# Altium integrated library Vishay Roederstein Electrolytic Snap-In Pins Capacitor.IntLib: 936 symbols (part 6 of 16)
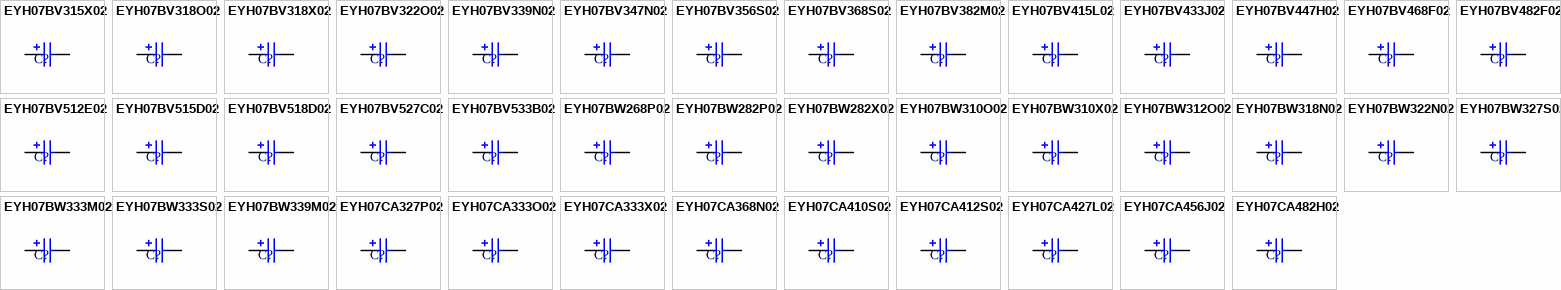
[diagram p28: symbols EYH07BV315X02 to EYH07CA482H02]

## EYH07BW282P02
designator C?
Aluminum Electrolytic Capacitor, Power Capacitor Style EYH, Snap-in 6mm Solder Pins: 82uF, 450V; PCB_Layout: Complies with Manufacturer's Recommendation.; DrillSize: Nominal, Complies with Manufacturer's Recommendation.; Published: 19-Mar-2004; DatasheetDocument: 14-Feb-2002; PackageReference: CAPPRS10-30X20; Publisher: Altium Limited; ComponentLink1Description: Manufacturer Link; ComponentLink1URL: http://www.vishay.com/; ComponentLink2Description: Datasheet; ComponentLink2URL: http://www.vishay.com/docs/25139/eyh.pdf; Value: 82uF
footprint CAPPRS10-30X20 (Capacitor, Electrolytic, Radial, Snap-In Pins; Body 30 x 20 mm (Dia.xH typ); Pin Spacing 10 mm (typ))
simulation model CAP (Capacitor)
signal-integrity model EYH07BW282P02
pins: 1, 2
1 alternate drawing of the same symbol

## EYH07BW282X02
designator C?
Aluminum Electrolytic Capacitor, Power Capacitor Style EYH, Snap-in 6mm Solder Pins: 82uF, 400V; PCB_Layout: Complies with Manufacturer's Recommendation.; DrillSize: Nominal, Complies with Manufacturer's Recommendation.; Published: 19-Mar-2004; DatasheetDocument: 14-Feb-2002; PackageReference: CAPPRS10-30X20; Publisher: Altium Limited; ComponentLink1Description: Manufacturer Link; ComponentLink1URL: http://www.vishay.com/; ComponentLink2Description: Datasheet; ComponentLink2URL: http://www.vishay.com/docs/25139/eyh.pdf; Value: 82uF
footprint CAPPRS10-30X20 (Capacitor, Electrolytic, Radial, Snap-In Pins; Body 30 x 20 mm (Dia.xH typ); Pin Spacing 10 mm (typ))
simulation model CAP (Capacitor)
signal-integrity model EYH07BW282X02
pins: 1, 2
1 alternate drawing of the same symbol

## EYH07BW310O02
designator C?
Aluminum Electrolytic Capacitor, Power Capacitor Style EYH, Snap-in 6mm Solder Pins: 100uF, 350V; PCB_Layout: Complies with Manufacturer's Recommendation.; DrillSize: Nominal, Complies with Manufacturer's Recommendation.; Published: 19-Mar-2004; DatasheetDocument: 14-Feb-2002; PackageReference: CAPPRS10-30X20; Publisher: Altium Limited; ComponentLink1Description: Manufacturer Link; ComponentLink1URL: http://www.vishay.com/; ComponentLink2Description: Datasheet; ComponentLink2URL: http://www.vishay.com/docs/25139/eyh.pdf; Value: 100uF
footprint CAPPRS10-30X20 (Capacitor, Electrolytic, Radial, Snap-In Pins; Body 30 x 20 mm (Dia.xH typ); Pin Spacing 10 mm (typ))
simulation model CAP (Capacitor)
signal-integrity model EYH07BW310O02
pins: 1, 2
1 alternate drawing of the same symbol

## EYH07BW310X02
designator C?
Aluminum Electrolytic Capacitor, Power Capacitor Style EYH, Snap-in 6mm Solder Pins: 100uF, 400V; PCB_Layout: Complies with Manufacturer's Recommendation.; DrillSize: Nominal, Complies with Manufacturer's Recommendation.; Published: 19-Mar-2004; DatasheetDocument: 14-Feb-2002; PackageReference: CAPPRS10-30X20; Publisher: Altium Limited; ComponentLink1Description: Manufacturer Link; ComponentLink1URL: http://www.vishay.com/; ComponentLink2Description: Datasheet; ComponentLink2URL: http://www.vishay.com/docs/25139/eyh.pdf; Value: 100uF
footprint CAPPRS10-30X20 (Capacitor, Electrolytic, Radial, Snap-In Pins; Body 30 x 20 mm (Dia.xH typ); Pin Spacing 10 mm (typ))
simulation model CAP (Capacitor)
signal-integrity model EYH07BW310X02
pins: 1, 2
1 alternate drawing of the same symbol

## EYH07BW312O02
designator C?
Aluminum Electrolytic Capacitor, Power Capacitor Style EYH, Snap-in 6mm Solder Pins: 120uF, 350V; PCB_Layout: Complies with Manufacturer's Recommendation.; DrillSize: Nominal, Complies with Manufacturer's Recommendation.; Published: 19-Mar-2004; DatasheetDocument: 14-Feb-2002; PackageReference: CAPPRS10-30X20; Publisher: Altium Limited; ComponentLink1Description: Manufacturer Link; ComponentLink1URL: http://www.vishay.com/; ComponentLink2Description: Datasheet; ComponentLink2URL: http://www.vishay.com/docs/25139/eyh.pdf; Value: 120uF
footprint CAPPRS10-30X20 (Capacitor, Electrolytic, Radial, Snap-In Pins; Body 30 x 20 mm (Dia.xH typ); Pin Spacing 10 mm (typ))
simulation model CAP (Capacitor)
signal-integrity model EYH07BW312O02
pins: 1, 2
1 alternate drawing of the same symbol

## EYH07BW318N02
designator C?
Aluminum Electrolytic Capacitor, Power Capacitor Style EYH, Snap-in 6mm Solder Pins: 180uF, 250V; PCB_Layout: Complies with Manufacturer's Recommendation.; DrillSize: Nominal, Complies with Manufacturer's Recommendation.; Published: 19-Mar-2004; DatasheetDocument: 14-Feb-2002; PackageReference: CAPPRS10-30X20; Publisher: Altium Limited; ComponentLink1Description: Manufacturer Link; ComponentLink1URL: http://www.vishay.com/; ComponentLink2Description: Datasheet; ComponentLink2URL: http://www.vishay.com/docs/25139/eyh.pdf; Value: 180uF
footprint CAPPRS10-30X20 (Capacitor, Electrolytic, Radial, Snap-In Pins; Body 30 x 20 mm (Dia.xH typ); Pin Spacing 10 mm (typ))
simulation model CAP (Capacitor)
signal-integrity model EYH07BW318N02
pins: 1, 2
1 alternate drawing of the same symbol

## EYH07BW322N02
designator C?
Aluminum Electrolytic Capacitor, Power Capacitor Style EYH, Snap-in 6mm Solder Pins: 220uF, 250V; PCB_Layout: Complies with Manufacturer's Recommendation.; DrillSize: Nominal, Complies with Manufacturer's Recommendation.; Published: 19-Mar-2004; DatasheetDocument: 14-Feb-2002; PackageReference: CAPPRS10-30X20; Publisher: Altium Limited; ComponentLink1Description: Manufacturer Link; ComponentLink1URL: http://www.vishay.com/; ComponentLink2Description: Datasheet; ComponentLink2URL: http://www.vishay.com/docs/25139/eyh.pdf; Value: 220uF
footprint CAPPRS10-30X20 (Capacitor, Electrolytic, Radial, Snap-In Pins; Body 30 x 20 mm (Dia.xH typ); Pin Spacing 10 mm (typ))
simulation model CAP (Capacitor)
signal-integrity model EYH07BW322N02
pins: 1, 2
1 alternate drawing of the same symbol

## EYH07BW327S02
designator C?
Aluminum Electrolytic Capacitor, Power Capacitor Style EYH, Snap-in 6mm Solder Pins: 270uF, 200V; PCB_Layout: Complies with Manufacturer's Recommendation.; DrillSize: Nominal, Complies with Manufacturer's Recommendation.; Published: 19-Mar-2004; DatasheetDocument: 14-Feb-2002; PackageReference: CAPPRS10-30X20; Publisher: Altium Limited; ComponentLink1Description: Manufacturer Link; ComponentLink1URL: http://www.vishay.com/; ComponentLink2Description: Datasheet; ComponentLink2URL: http://www.vishay.com/docs/25139/eyh.pdf; Value: 270uF
footprint CAPPRS10-30X20 (Capacitor, Electrolytic, Radial, Snap-In Pins; Body 30 x 20 mm (Dia.xH typ); Pin Spacing 10 mm (typ))
simulation model CAP (Capacitor)
signal-integrity model EYH07BW327S02
pins: 1, 2
1 alternate drawing of the same symbol

## EYH07BW333M02
designator C?
Aluminum Electrolytic Capacitor, Power Capacitor Style EYH, Snap-in 6mm Solder Pins: 330uF, 160V; PCB_Layout: Complies with Manufacturer's Recommendation.; DrillSize: Nominal, Complies with Manufacturer's Recommendation.; Published: 19-Mar-2004; DatasheetDocument: 14-Feb-2002; PackageReference: CAPPRS10-30X20; Publisher: Altium Limited; ComponentLink1Description: Manufacturer Link; ComponentLink1URL: http://www.vishay.com/; ComponentLink2Description: Datasheet; ComponentLink2URL: http://www.vishay.com/docs/25139/eyh.pdf; Value: 330uF
footprint CAPPRS10-30X20 (Capacitor, Electrolytic, Radial, Snap-In Pins; Body 30 x 20 mm (Dia.xH typ); Pin Spacing 10 mm (typ))
simulation model CAP (Capacitor)
signal-integrity model EYH07BW333M02
pins: 1, 2
1 alternate drawing of the same symbol

## EYH07BW333S02
designator C?
Aluminum Electrolytic Capacitor, Power Capacitor Style EYH, Snap-in 6mm Solder Pins: 330uF, 200V; PCB_Layout: Complies with Manufacturer's Recommendation.; DrillSize: Nominal, Complies with Manufacturer's Recommendation.; Published: 19-Mar-2004; DatasheetDocument: 14-Feb-2002; PackageReference: CAPPRS10-30X20; Publisher: Altium Limited; ComponentLink1Description: Manufacturer Link; ComponentLink1URL: http://www.vishay.com/; ComponentLink2Description: Datasheet; ComponentLink2URL: http://www.vishay.com/docs/25139/eyh.pdf; Value: 330uF
footprint CAPPRS10-30X20 (Capacitor, Electrolytic, Radial, Snap-In Pins; Body 30 x 20 mm (Dia.xH typ); Pin Spacing 10 mm (typ))
simulation model CAP (Capacitor)
signal-integrity model EYH07BW333S02
pins: 1, 2
1 alternate drawing of the same symbol

## EYH07BW339M02
designator C?
Aluminum Electrolytic Capacitor, Power Capacitor Style EYH, Snap-in 6mm Solder Pins: 390uF, 160V; PCB_Layout: Complies with Manufacturer's Recommendation.; DrillSize: Nominal, Complies with Manufacturer's Recommendation.; Published: 19-Mar-2004; DatasheetDocument: 14-Feb-2002; PackageReference: CAPPRS10-30X20; Publisher: Altium Limited; ComponentLink1Description: Manufacturer Link; ComponentLink1URL: http://www.vishay.com/; ComponentLink2Description: Datasheet; ComponentLink2URL: http://www.vishay.com/docs/25139/eyh.pdf; Value: 390uF
footprint CAPPRS10-30X20 (Capacitor, Electrolytic, Radial, Snap-In Pins; Body 30 x 20 mm (Dia.xH typ); Pin Spacing 10 mm (typ))
simulation model CAP (Capacitor)
signal-integrity model EYH07BW339M02
pins: 1, 2
1 alternate drawing of the same symbol

## EYH07CA327P02
designator C?
Aluminum Electrolytic Capacitor, Power Capacitor Style EYH, Snap-in 6mm Solder Pins: 270uF, 450V; PCB_Layout: Complies with Manufacturer's Recommendation.; DrillSize: Nominal, Complies with Manufacturer's Recommendation.; Published: 19-Mar-2004; DatasheetDocument: 14-Feb-2002; PackageReference: CAPPRS10-35X35; Publisher: Altium Limited; ComponentLink1Description: Manufacturer Link; ComponentLink1URL: http://www.vishay.com/; ComponentLink2Description: Datasheet; ComponentLink2URL: http://www.vishay.com/docs/25139/eyh.pdf; Value: 270uF
footprint CAPPRS10-35X35 (Capacitor, Electrolytic, Radial, Snap-In Pins; Body 35 x 35 mm (Dia.xH typ); Pin Spacing 10 mm (typ))
simulation model CAP (Capacitor)
signal-integrity model EYH07CA327P02
pins: 1, 2
1 alternate drawing of the same symbol

## EYH07CA333O02
designator C?
Aluminum Electrolytic Capacitor, Power Capacitor Style EYH, Snap-in 6mm Solder Pins: 330uF, 350V; PCB_Layout: Complies with Manufacturer's Recommendation.; DrillSize: Nominal, Complies with Manufacturer's Recommendation.; Published: 19-Mar-2004; DatasheetDocument: 14-Feb-2002; PackageReference: CAPPRS10-35X35; Publisher: Altium Limited; ComponentLink1Description: Manufacturer Link; ComponentLink1URL: http://www.vishay.com/; ComponentLink2Description: Datasheet; ComponentLink2URL: http://www.vishay.com/docs/25139/eyh.pdf; Value: 330uF
footprint CAPPRS10-35X35 (Capacitor, Electrolytic, Radial, Snap-In Pins; Body 35 x 35 mm (Dia.xH typ); Pin Spacing 10 mm (typ))
simulation model CAP (Capacitor)
signal-integrity model EYH07CA333O02
pins: 1, 2
1 alternate drawing of the same symbol

## EYH07CA333X02
designator C?
Aluminum Electrolytic Capacitor, Power Capacitor Style EYH, Snap-in 6mm Solder Pins: 330uF, 400V; PCB_Layout: Complies with Manufacturer's Recommendation.; DrillSize: Nominal, Complies with Manufacturer's Recommendation.; Published: 19-Mar-2004; DatasheetDocument: 14-Feb-2002; PackageReference: CAPPRS10-35X35; Publisher: Altium Limited; ComponentLink1Description: Manufacturer Link; ComponentLink1URL: http://www.vishay.com/; ComponentLink2Description: Datasheet; ComponentLink2URL: http://www.vishay.com/docs/25139/eyh.pdf; Value: 330uF
footprint CAPPRS10-35X35 (Capacitor, Electrolytic, Radial, Snap-In Pins; Body 35 x 35 mm (Dia.xH typ); Pin Spacing 10 mm (typ))
simulation model CAP (Capacitor)
signal-integrity model EYH07CA333X02
pins: 1, 2
1 alternate drawing of the same symbol

## EYH07CA368N02
designator C?
Aluminum Electrolytic Capacitor, Power Capacitor Style EYH, Snap-in 6mm Solder Pins: 680uF, 250V; PCB_Layout: Complies with Manufacturer's Recommendation.; DrillSize: Nominal, Complies with Manufacturer's Recommendation.; Published: 19-Mar-2004; DatasheetDocument: 14-Feb-2002; PackageReference: CAPPRS10-35X35; Publisher: Altium Limited; ComponentLink1Description: Manufacturer Link; ComponentLink1URL: http://www.vishay.com/; ComponentLink2Description: Datasheet; ComponentLink2URL: http://www.vishay.com/docs/25139/eyh.pdf; Value: 680uF
footprint CAPPRS10-35X35 (Capacitor, Electrolytic, Radial, Snap-In Pins; Body 35 x 35 mm (Dia.xH typ); Pin Spacing 10 mm (typ))
simulation model CAP (Capacitor)
signal-integrity model EYH07CA368N02
pins: 1, 2
1 alternate drawing of the same symbol

## EYH07CA410S02
designator C?
Aluminum Electrolytic Capacitor, Power Capacitor Style EYH, Snap-in 6mm Solder Pins: 1000uF, 200V; PCB_Layout: Complies with Manufacturer's Recommendation.; DrillSize: Nominal, Complies with Manufacturer's Recommendation.; Published: 19-Mar-2004; DatasheetDocument: 14-Feb-2002; PackageReference: CAPPRS10-35X35; Publisher: Altium Limited; ComponentLink1Description: Manufacturer Link; ComponentLink1URL: http://www.vishay.com/; ComponentLink2Description: Datasheet; ComponentLink2URL: http://www.vishay.com/docs/25139/eyh.pdf; Value: 1000uF
footprint CAPPRS10-35X35 (Capacitor, Electrolytic, Radial, Snap-In Pins; Body 35 x 35 mm (Dia.xH typ); Pin Spacing 10 mm (typ))
simulation model CAP (Capacitor)
signal-integrity model EYH07CA410S02
pins: 1, 2
1 alternate drawing of the same symbol

## EYH07CA412S02
designator C?
Aluminum Electrolytic Capacitor, Power Capacitor Style EYH, Snap-in 6mm Solder Pins: 1200uF, 200V; PCB_Layout: Complies with Manufacturer's Recommendation.; DrillSize: Nominal, Complies with Manufacturer's Recommendation.; Published: 19-Mar-2004; DatasheetDocument: 14-Feb-2002; PackageReference: CAPPRS10-35X35; Publisher: Altium Limited; ComponentLink1Description: Manufacturer Link; ComponentLink1URL: http://www.vishay.com/; ComponentLink2Description: Datasheet; ComponentLink2URL: http://www.vishay.com/docs/25139/eyh.pdf; Value: 1200uF
footprint CAPPRS10-35X35 (Capacitor, Electrolytic, Radial, Snap-In Pins; Body 35 x 35 mm (Dia.xH typ); Pin Spacing 10 mm (typ))
simulation model CAP (Capacitor)
signal-integrity model EYH07CA412S02
pins: 1, 2
1 alternate drawing of the same symbol

## EYH07CA427L02
designator C?
Aluminum Electrolytic Capacitor, Power Capacitor Style EYH, Snap-in 6mm Solder Pins: 2700uF, 100V; PCB_Layout: Complies with Manufacturer's Recommendation.; DrillSize: Nominal, Complies with Manufacturer's Recommendation.; Published: 19-Mar-2004; DatasheetDocument: 14-Feb-2002; PackageReference: CAPPRS10-35X35; Publisher: Altium Limited; ComponentLink1Description: Manufacturer Link; ComponentLink1URL: http://www.vishay.com/; ComponentLink2Description: Datasheet; ComponentLink2URL: http://www.vishay.com/docs/25139/eyh.pdf; Value: 2700uF
footprint CAPPRS10-35X35 (Capacitor, Electrolytic, Radial, Snap-In Pins; Body 35 x 35 mm (Dia.xH typ); Pin Spacing 10 mm (typ))
simulation model CAP (Capacitor)
signal-integrity model EYH07CA427L02
pins: 1, 2
1 alternate drawing of the same symbol

## EYH07CA456J02
designator C?
Aluminum Electrolytic Capacitor, Power Capacitor Style EYH, Snap-in 6mm Solder Pins: 5600uF, 63V; PCB_Layout: Complies with Manufacturer's Recommendation.; DrillSize: Nominal, Complies with Manufacturer's Recommendation.; Published: 19-Mar-2004; DatasheetDocument: 14-Feb-2002; PackageReference: CAPPRS10-35X35; Publisher: Altium Limited; ComponentLink1Description: Manufacturer Link; ComponentLink1URL: http://www.vishay.com/; ComponentLink2Description: Datasheet; ComponentLink2URL: http://www.vishay.com/docs/25139/eyh.pdf; Value: 5600uF
footprint CAPPRS10-35X35 (Capacitor, Electrolytic, Radial, Snap-In Pins; Body 35 x 35 mm (Dia.xH typ); Pin Spacing 10 mm (typ))
simulation model CAP (Capacitor)
signal-integrity model EYH07CA456J02
pins: 1, 2
1 alternate drawing of the same symbol

## EYH07CA482H02
designator C?
Aluminum Electrolytic Capacitor, Power Capacitor Style EYH, Snap-in 6mm Solder Pins: 8200uF, 50V; PCB_Layout: Complies with Manufacturer's Recommendation.; DrillSize: Nominal, Complies with Manufacturer's Recommendation.; Published: 19-Mar-2004; DatasheetDocument: 14-Feb-2002; PackageReference: CAPPRS10-35X35; Publisher: Altium Limited; ComponentLink1Description: Manufacturer Link; ComponentLink1URL: http://www.vishay.com/; ComponentLink2Description: Datasheet; ComponentLink2URL: http://www.vishay.com/docs/25139/eyh.pdf; Value: 8200uF
footprint CAPPRS10-35X35 (Capacitor, Electrolytic, Radial, Snap-In Pins; Body 35 x 35 mm (Dia.xH typ); Pin Spacing 10 mm (typ))
simulation model CAP (Capacitor)
signal-integrity model EYH07CA482H02
pins: 1, 2
1 alternate drawing of the same symbol

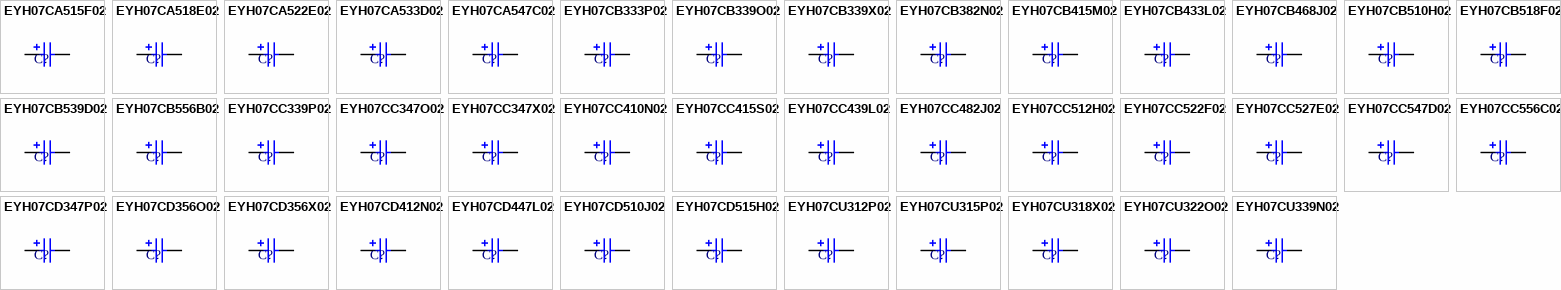
[diagram p8: symbols EYH07CA515F02 to EYH07CU339N02]

## EYH07CA515F02
designator C?
Aluminum Electrolytic Capacitor, Power Capacitor Style EYH, Snap-in 6mm Solder Pins: 15000uF, 35V; PCB_Layout: Complies with Manufacturer's Recommendation.; DrillSize: Nominal, Complies with Manufacturer's Recommendation.; Published: 19-Mar-2004; DatasheetDocument: 14-Feb-2002; PackageReference: CAPPRS10-35X35; Publisher: Altium Limited; ComponentLink1Description: Manufacturer Link; ComponentLink1URL: http://www.vishay.com/; ComponentLink2Description: Datasheet; ComponentLink2URL: http://www.vishay.com/docs/25139/eyh.pdf; Value: 15000uF
footprint CAPPRS10-35X35 (Capacitor, Electrolytic, Radial, Snap-In Pins; Body 35 x 35 mm (Dia.xH typ); Pin Spacing 10 mm (typ))
simulation model CAP (Capacitor)
signal-integrity model EYH07CA515F02
pins: 1, 2
1 alternate drawing of the same symbol

## EYH07CA518E02
designator C?
Aluminum Electrolytic Capacitor, Power Capacitor Style EYH, Snap-in 6mm Solder Pins: 18000uF, 25V; PCB_Layout: Complies with Manufacturer's Recommendation.; DrillSize: Nominal, Complies with Manufacturer's Recommendation.; Published: 19-Mar-2004; DatasheetDocument: 14-Feb-2002; PackageReference: CAPPRS10-35X35; Publisher: Altium Limited; ComponentLink1Description: Manufacturer Link; ComponentLink1URL: http://www.vishay.com/; ComponentLink2Description: Datasheet; ComponentLink2URL: http://www.vishay.com/docs/25139/eyh.pdf; Value: 18000uF
footprint CAPPRS10-35X35 (Capacitor, Electrolytic, Radial, Snap-In Pins; Body 35 x 35 mm (Dia.xH typ); Pin Spacing 10 mm (typ))
simulation model CAP (Capacitor)
signal-integrity model EYH07CA518E02
pins: 1, 2
1 alternate drawing of the same symbol

## EYH07CA522E02
designator C?
Aluminum Electrolytic Capacitor, Power Capacitor Style EYH, Snap-in 6mm Solder Pins: 22000uF, 25V; PCB_Layout: Complies with Manufacturer's Recommendation.; DrillSize: Nominal, Complies with Manufacturer's Recommendation.; Published: 19-Mar-2004; DatasheetDocument: 14-Feb-2002; PackageReference: CAPPRS10-35X35; Publisher: Altium Limited; ComponentLink1Description: Manufacturer Link; ComponentLink1URL: http://www.vishay.com/; ComponentLink2Description: Datasheet; ComponentLink2URL: http://www.vishay.com/docs/25139/eyh.pdf; Value: 22000uF
footprint CAPPRS10-35X35 (Capacitor, Electrolytic, Radial, Snap-In Pins; Body 35 x 35 mm (Dia.xH typ); Pin Spacing 10 mm (typ))
simulation model CAP (Capacitor)
signal-integrity model EYH07CA522E02
pins: 1, 2
1 alternate drawing of the same symbol

## EYH07CA533D02
designator C?
Aluminum Electrolytic Capacitor, Power Capacitor Style EYH, Snap-in 6mm Solder Pins: 33000uF, 16V; PCB_Layout: Complies with Manufacturer's Recommendation.; DrillSize: Nominal, Complies with Manufacturer's Recommendation.; Published: 19-Mar-2004; DatasheetDocument: 14-Feb-2002; PackageReference: CAPPRS10-35X35; Publisher: Altium Limited; ComponentLink1Description: Manufacturer Link; ComponentLink1URL: http://www.vishay.com/; ComponentLink2Description: Datasheet; ComponentLink2URL: http://www.vishay.com/docs/25139/eyh.pdf; Value: 33000uF
footprint CAPPRS10-35X35 (Capacitor, Electrolytic, Radial, Snap-In Pins; Body 35 x 35 mm (Dia.xH typ); Pin Spacing 10 mm (typ))
simulation model CAP (Capacitor)
signal-integrity model EYH07CA533D02
pins: 1, 2
1 alternate drawing of the same symbol

## EYH07CA547C02
designator C?
Aluminum Electrolytic Capacitor, Power Capacitor Style EYH, Snap-in 6mm Solder Pins: 47000uF, 10V; PCB_Layout: Complies with Manufacturer's Recommendation.; DrillSize: Nominal, Complies with Manufacturer's Recommendation.; Published: 19-Mar-2004; DatasheetDocument: 14-Feb-2002; PackageReference: CAPPRS10-35X35; Publisher: Altium Limited; ComponentLink1Description: Manufacturer Link; ComponentLink1URL: http://www.vishay.com/; ComponentLink2Description: Datasheet; ComponentLink2URL: http://www.vishay.com/docs/25139/eyh.pdf; Value: 47000uF
footprint CAPPRS10-35X35 (Capacitor, Electrolytic, Radial, Snap-In Pins; Body 35 x 35 mm (Dia.xH typ); Pin Spacing 10 mm (typ))
simulation model CAP (Capacitor)
signal-integrity model EYH07CA547C02
pins: 1, 2
1 alternate drawing of the same symbol

## EYH07CB333P02
designator C?
Aluminum Electrolytic Capacitor, Power Capacitor Style EYH, Snap-in 6mm Solder Pins: 330uF, 450V; PCB_Layout: Complies with Manufacturer's Recommendation.; DrillSize: Nominal, Complies with Manufacturer's Recommendation.; Published: 19-Mar-2004; DatasheetDocument: 14-Feb-2002; PackageReference: CAPPRS10-35X40; Publisher: Altium Limited; ComponentLink1Description: Manufacturer Link; ComponentLink1URL: http://www.vishay.com/; ComponentLink2Description: Datasheet; ComponentLink2URL: http://www.vishay.com/docs/25139/eyh.pdf; Value: 330uF
footprint CAPPRS10-35X40 (Capacitor, Electrolytic, Radial, Snap-In Pins; Body 35 x 40 mm (Dia.xH typ); Pin Spacing 10 mm (typ))
simulation model CAP (Capacitor)
signal-integrity model EYH07CB333P02
pins: 1, 2
1 alternate drawing of the same symbol

## EYH07CB339O02
designator C?
Aluminum Electrolytic Capacitor, Power Capacitor Style EYH, Snap-in 6mm Solder Pins: 390uF, 350V; PCB_Layout: Complies with Manufacturer's Recommendation.; DrillSize: Nominal, Complies with Manufacturer's Recommendation.; Published: 19-Mar-2004; DatasheetDocument: 14-Feb-2002; PackageReference: CAPPRS10-35X40; Publisher: Altium Limited; ComponentLink1Description: Manufacturer Link; ComponentLink1URL: http://www.vishay.com/; ComponentLink2Description: Datasheet; ComponentLink2URL: http://www.vishay.com/docs/25139/eyh.pdf; Value: 390uF
footprint CAPPRS10-35X40 (Capacitor, Electrolytic, Radial, Snap-In Pins; Body 35 x 40 mm (Dia.xH typ); Pin Spacing 10 mm (typ))
simulation model CAP (Capacitor)
signal-integrity model EYH07CB339O02
pins: 1, 2
1 alternate drawing of the same symbol

## EYH07CB339X02
designator C?
Aluminum Electrolytic Capacitor, Power Capacitor Style EYH, Snap-in 6mm Solder Pins: 390uF, 400V; PCB_Layout: Complies with Manufacturer's Recommendation.; DrillSize: Nominal, Complies with Manufacturer's Recommendation.; Published: 19-Mar-2004; DatasheetDocument: 14-Feb-2002; PackageReference: CAPPRS10-35X40; Publisher: Altium Limited; ComponentLink1Description: Manufacturer Link; ComponentLink1URL: http://www.vishay.com/; ComponentLink2Description: Datasheet; ComponentLink2URL: http://www.vishay.com/docs/25139/eyh.pdf; Value: 390uF
footprint CAPPRS10-35X40 (Capacitor, Electrolytic, Radial, Snap-In Pins; Body 35 x 40 mm (Dia.xH typ); Pin Spacing 10 mm (typ))
simulation model CAP (Capacitor)
signal-integrity model EYH07CB339X02
pins: 1, 2
1 alternate drawing of the same symbol

## EYH07CB382N02
designator C?
Aluminum Electrolytic Capacitor, Power Capacitor Style EYH, Snap-in 6mm Solder Pins: 820uF, 250V; PCB_Layout: Complies with Manufacturer's Recommendation.; DrillSize: Nominal, Complies with Manufacturer's Recommendation.; Published: 19-Mar-2004; DatasheetDocument: 14-Feb-2002; PackageReference: CAPPRS10-35X40; Publisher: Altium Limited; ComponentLink1Description: Manufacturer Link; ComponentLink1URL: http://www.vishay.com/; ComponentLink2Description: Datasheet; ComponentLink2URL: http://www.vishay.com/docs/25139/eyh.pdf; Value: 820uF
footprint CAPPRS10-35X40 (Capacitor, Electrolytic, Radial, Snap-In Pins; Body 35 x 40 mm (Dia.xH typ); Pin Spacing 10 mm (typ))
simulation model CAP (Capacitor)
signal-integrity model EYH07CB382N02
pins: 1, 2
1 alternate drawing of the same symbol

## EYH07CB415M02
designator C?
Aluminum Electrolytic Capacitor, Power Capacitor Style EYH, Snap-in 6mm Solder Pins: 1500uF, 160V; PCB_Layout: Complies with Manufacturer's Recommendation.; DrillSize: Nominal, Complies with Manufacturer's Recommendation.; Published: 19-Mar-2004; DatasheetDocument: 14-Feb-2002; PackageReference: CAPPRS10-35X40; Publisher: Altium Limited; ComponentLink1Description: Manufacturer Link; ComponentLink1URL: http://www.vishay.com/; ComponentLink2Description: Datasheet; ComponentLink2URL: http://www.vishay.com/docs/25139/eyh.pdf; Value: 1500uF
footprint CAPPRS10-35X40 (Capacitor, Electrolytic, Radial, Snap-In Pins; Body 35 x 40 mm (Dia.xH typ); Pin Spacing 10 mm (typ))
simulation model CAP (Capacitor)
signal-integrity model EYH07CB415M02
pins: 1, 2
1 alternate drawing of the same symbol

## EYH07CB433L02
designator C?
Aluminum Electrolytic Capacitor, Power Capacitor Style EYH, Snap-in 6mm Solder Pins: 3300uF, 100V; PCB_Layout: Complies with Manufacturer's Recommendation.; DrillSize: Nominal, Complies with Manufacturer's Recommendation.; Published: 19-Mar-2004; DatasheetDocument: 14-Feb-2002; PackageReference: CAPPRS10-35X40; Publisher: Altium Limited; ComponentLink1Description: Manufacturer Link; ComponentLink1URL: http://www.vishay.com/; ComponentLink2Description: Datasheet; ComponentLink2URL: http://www.vishay.com/docs/25139/eyh.pdf; Value: 3300uF
footprint CAPPRS10-35X40 (Capacitor, Electrolytic, Radial, Snap-In Pins; Body 35 x 40 mm (Dia.xH typ); Pin Spacing 10 mm (typ))
simulation model CAP (Capacitor)
signal-integrity model EYH07CB433L02
pins: 1, 2
1 alternate drawing of the same symbol

## EYH07CB468J02
designator C?
Aluminum Electrolytic Capacitor, Power Capacitor Style EYH, Snap-in 6mm Solder Pins: 6800uF, 63V; PCB_Layout: Complies with Manufacturer's Recommendation.; DrillSize: Nominal, Complies with Manufacturer's Recommendation.; Published: 19-Mar-2004; DatasheetDocument: 14-Feb-2002; PackageReference: CAPPRS10-35X40; Publisher: Altium Limited; ComponentLink1Description: Manufacturer Link; ComponentLink1URL: http://www.vishay.com/; ComponentLink2Description: Datasheet; ComponentLink2URL: http://www.vishay.com/docs/25139/eyh.pdf; Value: 6800uF
footprint CAPPRS10-35X40 (Capacitor, Electrolytic, Radial, Snap-In Pins; Body 35 x 40 mm (Dia.xH typ); Pin Spacing 10 mm (typ))
simulation model CAP (Capacitor)
signal-integrity model EYH07CB468J02
pins: 1, 2
1 alternate drawing of the same symbol

## EYH07CB510H02
designator C?
Aluminum Electrolytic Capacitor, Power Capacitor Style EYH, Snap-in 6mm Solder Pins: 10000uF, 50V; PCB_Layout: Complies with Manufacturer's Recommendation.; DrillSize: Nominal, Complies with Manufacturer's Recommendation.; Published: 19-Mar-2004; DatasheetDocument: 14-Feb-2002; PackageReference: CAPPRS10-35X40; Publisher: Altium Limited; ComponentLink1Description: Manufacturer Link; ComponentLink1URL: http://www.vishay.com/; ComponentLink2Description: Datasheet; ComponentLink2URL: http://www.vishay.com/docs/25139/eyh.pdf; Value: 10000uF
footprint CAPPRS10-35X40 (Capacitor, Electrolytic, Radial, Snap-In Pins; Body 35 x 40 mm (Dia.xH typ); Pin Spacing 10 mm (typ))
simulation model CAP (Capacitor)
signal-integrity model EYH07CB510H02
pins: 1, 2
1 alternate drawing of the same symbol

## EYH07CB518F02
designator C?
Aluminum Electrolytic Capacitor, Power Capacitor Style EYH, Snap-in 6mm Solder Pins: 18000uF, 35V; PCB_Layout: Complies with Manufacturer's Recommendation.; DrillSize: Nominal, Complies with Manufacturer's Recommendation.; Published: 19-Mar-2004; DatasheetDocument: 14-Feb-2002; PackageReference: CAPPRS10-35X40; Publisher: Altium Limited; ComponentLink1Description: Manufacturer Link; ComponentLink1URL: http://www.vishay.com/; ComponentLink2Description: Datasheet; ComponentLink2URL: http://www.vishay.com/docs/25139/eyh.pdf; Value: 18000uF
footprint CAPPRS10-35X40 (Capacitor, Electrolytic, Radial, Snap-In Pins; Body 35 x 40 mm (Dia.xH typ); Pin Spacing 10 mm (typ))
simulation model CAP (Capacitor)
signal-integrity model EYH07CB518F02
pins: 1, 2
1 alternate drawing of the same symbol

## EYH07CB539D02
designator C?
Aluminum Electrolytic Capacitor, Power Capacitor Style EYH, Snap-in 6mm Solder Pins: 39000uF, 16V; PCB_Layout: Complies with Manufacturer's Recommendation.; DrillSize: Nominal, Complies with Manufacturer's Recommendation.; Published: 19-Mar-2004; DatasheetDocument: 14-Feb-2002; PackageReference: CAPPRS10-35X40; Publisher: Altium Limited; ComponentLink1Description: Manufacturer Link; ComponentLink1URL: http://www.vishay.com/; ComponentLink2Description: Datasheet; ComponentLink2URL: http://www.vishay.com/docs/25139/eyh.pdf; Value: 39000uF
footprint CAPPRS10-35X40 (Capacitor, Electrolytic, Radial, Snap-In Pins; Body 35 x 40 mm (Dia.xH typ); Pin Spacing 10 mm (typ))
simulation model CAP (Capacitor)
signal-integrity model EYH07CB539D02
pins: 1, 2
1 alternate drawing of the same symbol

## EYH07CB556B02
designator C?
Aluminum Electrolytic Capacitor, Power Capacitor Style EYH, Snap-in 6mm Solder Pins: 56000uF, 6.3V; PCB_Layout: Complies with Manufacturer's Recommendation.; DrillSize: Nominal, Complies with Manufacturer's Recommendation.; Published: 19-Mar-2004; DatasheetDocument: 14-Feb-2002; PackageReference: CAPPRS10-35X40; Publisher: Altium Limited; ComponentLink1Description: Manufacturer Link; ComponentLink1URL: http://www.vishay.com/; ComponentLink2Description: Datasheet; ComponentLink2URL: http://www.vishay.com/docs/25139/eyh.pdf; Value: 56000uF
footprint CAPPRS10-35X40 (Capacitor, Electrolytic, Radial, Snap-In Pins; Body 35 x 40 mm (Dia.xH typ); Pin Spacing 10 mm (typ))
simulation model CAP (Capacitor)
signal-integrity model EYH07CB556B02
pins: 1, 2
1 alternate drawing of the same symbol

## EYH07CC339P02
designator C?
Aluminum Electrolytic Capacitor, Power Capacitor Style EYH, Snap-in 6mm Solder Pins: 390uF, 450V; PCB_Layout: Complies with Manufacturer's Recommendation.; DrillSize: Nominal, Complies with Manufacturer's Recommendation.; Published: 19-Mar-2004; DatasheetDocument: 14-Feb-2002; PackageReference: CAPPRS10-35X45; Publisher: Altium Limited; ComponentLink1Description: Manufacturer Link; ComponentLink1URL: http://www.vishay.com/; ComponentLink2Description: Datasheet; ComponentLink2URL: http://www.vishay.com/docs/25139/eyh.pdf; Value: 390uF
footprint CAPPRS10-35X45 (Capacitor, Electrolytic, Radial, Snap-In Pins; Body 35 x 45 mm (Dia.xH typ); Pin Spacing 10 mm (typ))
simulation model CAP (Capacitor)
signal-integrity model EYH07CC339P02
pins: 1, 2
1 alternate drawing of the same symbol

## EYH07CC347O02
designator C?
Aluminum Electrolytic Capacitor, Power Capacitor Style EYH, Snap-in 6mm Solder Pins: 470uF, 350V; PCB_Layout: Complies with Manufacturer's Recommendation.; DrillSize: Nominal, Complies with Manufacturer's Recommendation.; Published: 19-Mar-2004; DatasheetDocument: 14-Feb-2002; PackageReference: CAPPRS10-35X45; Publisher: Altium Limited; ComponentLink1Description: Manufacturer Link; ComponentLink1URL: http://www.vishay.com/; ComponentLink2Description: Datasheet; ComponentLink2URL: http://www.vishay.com/docs/25139/eyh.pdf; Value: 470uF
footprint CAPPRS10-35X45 (Capacitor, Electrolytic, Radial, Snap-In Pins; Body 35 x 45 mm (Dia.xH typ); Pin Spacing 10 mm (typ))
simulation model CAP (Capacitor)
signal-integrity model EYH07CC347O02
pins: 1, 2
1 alternate drawing of the same symbol

## EYH07CC347X02
designator C?
Aluminum Electrolytic Capacitor, Power Capacitor Style EYH, Snap-in 6mm Solder Pins: 470uF, 400V; PCB_Layout: Complies with Manufacturer's Recommendation.; DrillSize: Nominal, Complies with Manufacturer's Recommendation.; Published: 19-Mar-2004; DatasheetDocument: 14-Feb-2002; PackageReference: CAPPRS10-35X45; Publisher: Altium Limited; ComponentLink1Description: Manufacturer Link; ComponentLink1URL: http://www.vishay.com/; ComponentLink2Description: Datasheet; ComponentLink2URL: http://www.vishay.com/docs/25139/eyh.pdf; Value: 470uF
footprint CAPPRS10-35X45 (Capacitor, Electrolytic, Radial, Snap-In Pins; Body 35 x 45 mm (Dia.xH typ); Pin Spacing 10 mm (typ))
simulation model CAP (Capacitor)
signal-integrity model EYH07CC347X02
pins: 1, 2
1 alternate drawing of the same symbol

## EYH07CC410N02
designator C?
Aluminum Electrolytic Capacitor, Power Capacitor Style EYH, Snap-in 6mm Solder Pins: 1000uF, 250V; PCB_Layout: Complies with Manufacturer's Recommendation.; DrillSize: Nominal, Complies with Manufacturer's Recommendation.; Published: 19-Mar-2004; DatasheetDocument: 14-Feb-2002; PackageReference: CAPPRS10-35X45; Publisher: Altium Limited; ComponentLink1Description: Manufacturer Link; ComponentLink1URL: http://www.vishay.com/; ComponentLink2Description: Datasheet; ComponentLink2URL: http://www.vishay.com/docs/25139/eyh.pdf; Value: 1000uF
footprint CAPPRS10-35X45 (Capacitor, Electrolytic, Radial, Snap-In Pins; Body 35 x 45 mm (Dia.xH typ); Pin Spacing 10 mm (typ))
simulation model CAP (Capacitor)
signal-integrity model EYH07CC410N02
pins: 1, 2
1 alternate drawing of the same symbol

## EYH07CC415S02
designator C?
Aluminum Electrolytic Capacitor, Power Capacitor Style EYH, Snap-in 6mm Solder Pins: 1500uF, 200V; PCB_Layout: Complies with Manufacturer's Recommendation.; DrillSize: Nominal, Complies with Manufacturer's Recommendation.; Published: 19-Mar-2004; DatasheetDocument: 14-Feb-2002; PackageReference: CAPPRS10-35X45; Publisher: Altium Limited; ComponentLink1Description: Manufacturer Link; ComponentLink1URL: http://www.vishay.com/; ComponentLink2Description: Datasheet; ComponentLink2URL: http://www.vishay.com/docs/25139/eyh.pdf; Value: 1500uF
footprint CAPPRS10-35X45 (Capacitor, Electrolytic, Radial, Snap-In Pins; Body 35 x 45 mm (Dia.xH typ); Pin Spacing 10 mm (typ))
simulation model CAP (Capacitor)
signal-integrity model EYH07CC415S02
pins: 1, 2
1 alternate drawing of the same symbol

## EYH07CC439L02
designator C?
Aluminum Electrolytic Capacitor, Power Capacitor Style EYH, Snap-in 6mm Solder Pins: 3900uF, 100V; PCB_Layout: Complies with Manufacturer's Recommendation.; DrillSize: Nominal, Complies with Manufacturer's Recommendation.; Published: 19-Mar-2004; DatasheetDocument: 14-Feb-2002; PackageReference: CAPPRS10-35X45; Publisher: Altium Limited; ComponentLink1Description: Manufacturer Link; ComponentLink1URL: http://www.vishay.com/; ComponentLink2Description: Datasheet; ComponentLink2URL: http://www.vishay.com/docs/25139/eyh.pdf; Value: 3900uF
footprint CAPPRS10-35X45 (Capacitor, Electrolytic, Radial, Snap-In Pins; Body 35 x 45 mm (Dia.xH typ); Pin Spacing 10 mm (typ))
simulation model CAP (Capacitor)
signal-integrity model EYH07CC439L02
pins: 1, 2
1 alternate drawing of the same symbol

## EYH07CC482J02
designator C?
Aluminum Electrolytic Capacitor, Power Capacitor Style EYH, Snap-in 6mm Solder Pins: 8200uF, 63V; PCB_Layout: Complies with Manufacturer's Recommendation.; DrillSize: Nominal, Complies with Manufacturer's Recommendation.; Published: 19-Mar-2004; DatasheetDocument: 14-Feb-2002; PackageReference: CAPPRS10-35X45; Publisher: Altium Limited; ComponentLink1Description: Manufacturer Link; ComponentLink1URL: http://www.vishay.com/; ComponentLink2Description: Datasheet; ComponentLink2URL: http://www.vishay.com/docs/25139/eyh.pdf; Value: 8200uF
footprint CAPPRS10-35X45 (Capacitor, Electrolytic, Radial, Snap-In Pins; Body 35 x 45 mm (Dia.xH typ); Pin Spacing 10 mm (typ))
simulation model CAP (Capacitor)
signal-integrity model EYH07CC482J02
pins: 1, 2
1 alternate drawing of the same symbol

## EYH07CC512H02
designator C?
Aluminum Electrolytic Capacitor, Power Capacitor Style EYH, Snap-in 6mm Solder Pins: 12000uF, 50V; PCB_Layout: Complies with Manufacturer's Recommendation.; DrillSize: Nominal, Complies with Manufacturer's Recommendation.; Published: 19-Mar-2004; DatasheetDocument: 14-Feb-2002; PackageReference: CAPPRS10-35X45; Publisher: Altium Limited; ComponentLink1Description: Manufacturer Link; ComponentLink1URL: http://www.vishay.com/; ComponentLink2Description: Datasheet; ComponentLink2URL: http://www.vishay.com/docs/25139/eyh.pdf; Value: 12000uF
footprint CAPPRS10-35X45 (Capacitor, Electrolytic, Radial, Snap-In Pins; Body 35 x 45 mm (Dia.xH typ); Pin Spacing 10 mm (typ))
simulation model CAP (Capacitor)
signal-integrity model EYH07CC512H02
pins: 1, 2
1 alternate drawing of the same symbol

## EYH07CC522F02
designator C?
Aluminum Electrolytic Capacitor, Power Capacitor Style EYH, Snap-in 6mm Solder Pins: 22000uF, 35V; PCB_Layout: Complies with Manufacturer's Recommendation.; DrillSize: Nominal, Complies with Manufacturer's Recommendation.; Published: 19-Mar-2004; DatasheetDocument: 14-Feb-2002; PackageReference: CAPPRS10-35X45; Publisher: Altium Limited; ComponentLink1Description: Manufacturer Link; ComponentLink1URL: http://www.vishay.com/; ComponentLink2Description: Datasheet; ComponentLink2URL: http://www.vishay.com/docs/25139/eyh.pdf; Value: 22000uF
footprint CAPPRS10-35X45 (Capacitor, Electrolytic, Radial, Snap-In Pins; Body 35 x 45 mm (Dia.xH typ); Pin Spacing 10 mm (typ))
simulation model CAP (Capacitor)
signal-integrity model EYH07CC522F02
pins: 1, 2
1 alternate drawing of the same symbol

## EYH07CC527E02
designator C?
Aluminum Electrolytic Capacitor, Power Capacitor Style EYH, Snap-in 6mm Solder Pins: 27000uF, 25V; PCB_Layout: Complies with Manufacturer's Recommendation.; DrillSize: Nominal, Complies with Manufacturer's Recommendation.; Published: 19-Mar-2004; DatasheetDocument: 14-Feb-2002; PackageReference: CAPPRS10-35X45; Publisher: Altium Limited; ComponentLink1Description: Manufacturer Link; ComponentLink1URL: http://www.vishay.com/; ComponentLink2Description: Datasheet; ComponentLink2URL: http://www.vishay.com/docs/25139/eyh.pdf; Value: 27000uF
footprint CAPPRS10-35X45 (Capacitor, Electrolytic, Radial, Snap-In Pins; Body 35 x 45 mm (Dia.xH typ); Pin Spacing 10 mm (typ))
simulation model CAP (Capacitor)
signal-integrity model EYH07CC527E02
pins: 1, 2
1 alternate drawing of the same symbol

## EYH07CC547D02
designator C?
Aluminum Electrolytic Capacitor, Power Capacitor Style EYH, Snap-in 6mm Solder Pins: 47000uF, 16V; PCB_Layout: Complies with Manufacturer's Recommendation.; DrillSize: Nominal, Complies with Manufacturer's Recommendation.; Published: 19-Mar-2004; DatasheetDocument: 14-Feb-2002; PackageReference: CAPPRS10-35X45; Publisher: Altium Limited; ComponentLink1Description: Manufacturer Link; ComponentLink1URL: http://www.vishay.com/; ComponentLink2Description: Datasheet; ComponentLink2URL: http://www.vishay.com/docs/25139/eyh.pdf; Value: 47000uF
footprint CAPPRS10-35X45 (Capacitor, Electrolytic, Radial, Snap-In Pins; Body 35 x 45 mm (Dia.xH typ); Pin Spacing 10 mm (typ))
simulation model CAP (Capacitor)
signal-integrity model EYH07CC547D02
pins: 1, 2
1 alternate drawing of the same symbol

## EYH07CC556C02
designator C?
Aluminum Electrolytic Capacitor, Power Capacitor Style EYH, Snap-in 6mm Solder Pins: 56000uF, 10V; PCB_Layout: Complies with Manufacturer's Recommendation.; DrillSize: Nominal, Complies with Manufacturer's Recommendation.; Published: 19-Mar-2004; DatasheetDocument: 14-Feb-2002; PackageReference: CAPPRS10-35X45; Publisher: Altium Limited; ComponentLink1Description: Manufacturer Link; ComponentLink1URL: http://www.vishay.com/; ComponentLink2Description: Datasheet; ComponentLink2URL: http://www.vishay.com/docs/25139/eyh.pdf; Value: 56000uF
footprint CAPPRS10-35X45 (Capacitor, Electrolytic, Radial, Snap-In Pins; Body 35 x 45 mm (Dia.xH typ); Pin Spacing 10 mm (typ))
simulation model CAP (Capacitor)
signal-integrity model EYH07CC556C02
pins: 1, 2
1 alternate drawing of the same symbol

## EYH07CD347P02
designator C?
Aluminum Electrolytic Capacitor, Power Capacitor Style EYH, Snap-in 6mm Solder Pins: 470uF, 450V; PCB_Layout: Complies with Manufacturer's Recommendation.; DrillSize: Nominal, Complies with Manufacturer's Recommendation.; Published: 19-Mar-2004; DatasheetDocument: 14-Feb-2002; PackageReference: CAPPRS10-35X50; Publisher: Altium Limited; ComponentLink1Description: Manufacturer Link; ComponentLink1URL: http://www.vishay.com/; ComponentLink2Description: Datasheet; ComponentLink2URL: http://www.vishay.com/docs/25139/eyh.pdf; Value: 470uF
footprint CAPPRS10-35X50 (Capacitor, Electrolytic, Radial, Snap-In Pins; Body 35 x 50 mm (Dia.xH typ); Pin Spacing 10 mm (typ))
simulation model CAP (Capacitor)
signal-integrity model EYH07CD347P02
pins: 1, 2
1 alternate drawing of the same symbol

## EYH07CD356O02
designator C?
Aluminum Electrolytic Capacitor, Power Capacitor Style EYH, Snap-in 6mm Solder Pins: 560uF, 350V; PCB_Layout: Complies with Manufacturer's Recommendation.; DrillSize: Nominal, Complies with Manufacturer's Recommendation.; Published: 19-Mar-2004; DatasheetDocument: 14-Feb-2002; PackageReference: CAPPRS10-35X50; Publisher: Altium Limited; ComponentLink1Description: Manufacturer Link; ComponentLink1URL: http://www.vishay.com/; ComponentLink2Description: Datasheet; ComponentLink2URL: http://www.vishay.com/docs/25139/eyh.pdf; Value: 560uF
footprint CAPPRS10-35X50 (Capacitor, Electrolytic, Radial, Snap-In Pins; Body 35 x 50 mm (Dia.xH typ); Pin Spacing 10 mm (typ))
simulation model CAP (Capacitor)
signal-integrity model EYH07CD356O02
pins: 1, 2
1 alternate drawing of the same symbol

## EYH07CD356X02
designator C?
Aluminum Electrolytic Capacitor, Power Capacitor Style EYH, Snap-in 6mm Solder Pins: 560uF, 400V; PCB_Layout: Complies with Manufacturer's Recommendation.; DrillSize: Nominal, Complies with Manufacturer's Recommendation.; Published: 19-Mar-2004; DatasheetDocument: 14-Feb-2002; PackageReference: CAPPRS10-35X50; Publisher: Altium Limited; ComponentLink1Description: Manufacturer Link; ComponentLink1URL: http://www.vishay.com/; ComponentLink2Description: Datasheet; ComponentLink2URL: http://www.vishay.com/docs/25139/eyh.pdf; Value: 560uF
footprint CAPPRS10-35X50 (Capacitor, Electrolytic, Radial, Snap-In Pins; Body 35 x 50 mm (Dia.xH typ); Pin Spacing 10 mm (typ))
simulation model CAP (Capacitor)
signal-integrity model EYH07CD356X02
pins: 1, 2
1 alternate drawing of the same symbol

## EYH07CD412N02
designator C?
Aluminum Electrolytic Capacitor, Power Capacitor Style EYH, Snap-in 6mm Solder Pins: 1200uF, 250V; PCB_Layout: Complies with Manufacturer's Recommendation.; DrillSize: Nominal, Complies with Manufacturer's Recommendation.; Published: 19-Mar-2004; DatasheetDocument: 14-Feb-2002; PackageReference: CAPPRS10-35X50; Publisher: Altium Limited; ComponentLink1Description: Manufacturer Link; ComponentLink1URL: http://www.vishay.com/; ComponentLink2Description: Datasheet; ComponentLink2URL: http://www.vishay.com/docs/25139/eyh.pdf; Value: 1200uF
footprint CAPPRS10-35X50 (Capacitor, Electrolytic, Radial, Snap-In Pins; Body 35 x 50 mm (Dia.xH typ); Pin Spacing 10 mm (typ))
simulation model CAP (Capacitor)
signal-integrity model EYH07CD412N02
pins: 1, 2
1 alternate drawing of the same symbol

## EYH07CD447L02
designator C?
Aluminum Electrolytic Capacitor, Power Capacitor Style EYH, Snap-in 6mm Solder Pins: 4700uF, 100V; PCB_Layout: Complies with Manufacturer's Recommendation.; DrillSize: Nominal, Complies with Manufacturer's Recommendation.; Published: 19-Mar-2004; DatasheetDocument: 14-Feb-2002; PackageReference: CAPPRS10-35X50; Publisher: Altium Limited; ComponentLink1Description: Manufacturer Link; ComponentLink1URL: http://www.vishay.com/; ComponentLink2Description: Datasheet; ComponentLink2URL: http://www.vishay.com/docs/25139/eyh.pdf; Value: 4700uF
footprint CAPPRS10-35X50 (Capacitor, Electrolytic, Radial, Snap-In Pins; Body 35 x 50 mm (Dia.xH typ); Pin Spacing 10 mm (typ))
simulation model CAP (Capacitor)
signal-integrity model EYH07CD447L02
pins: 1, 2
1 alternate drawing of the same symbol

## EYH07CD510J02
designator C?
Aluminum Electrolytic Capacitor, Power Capacitor Style EYH, Snap-in 6mm Solder Pins: 10000uF, 63V; PCB_Layout: Complies with Manufacturer's Recommendation.; DrillSize: Nominal, Complies with Manufacturer's Recommendation.; Published: 19-Mar-2004; DatasheetDocument: 14-Feb-2002; PackageReference: CAPPRS10-35X50; Publisher: Altium Limited; ComponentLink1Description: Manufacturer Link; ComponentLink1URL: http://www.vishay.com/; ComponentLink2Description: Datasheet; ComponentLink2URL: http://www.vishay.com/docs/25139/eyh.pdf; Value: 10000uF
footprint CAPPRS10-35X50 (Capacitor, Electrolytic, Radial, Snap-In Pins; Body 35 x 50 mm (Dia.xH typ); Pin Spacing 10 mm (typ))
simulation model CAP (Capacitor)
signal-integrity model EYH07CD510J02
pins: 1, 2
1 alternate drawing of the same symbol

## EYH07CD515H02
designator C?
Aluminum Electrolytic Capacitor, Power Capacitor Style EYH, Snap-in 6mm Solder Pins: 15000uF, 50V; PCB_Layout: Complies with Manufacturer's Recommendation.; DrillSize: Nominal, Complies with Manufacturer's Recommendation.; Published: 19-Mar-2004; DatasheetDocument: 14-Feb-2002; PackageReference: CAPPRS10-35X50; Publisher: Altium Limited; ComponentLink1Description: Manufacturer Link; ComponentLink1URL: http://www.vishay.com/; ComponentLink2Description: Datasheet; ComponentLink2URL: http://www.vishay.com/docs/25139/eyh.pdf; Value: 15000uF
footprint CAPPRS10-35X50 (Capacitor, Electrolytic, Radial, Snap-In Pins; Body 35 x 50 mm (Dia.xH typ); Pin Spacing 10 mm (typ))
simulation model CAP (Capacitor)
signal-integrity model EYH07CD515H02
pins: 1, 2
1 alternate drawing of the same symbol

## EYH07CU312P02
designator C?
Aluminum Electrolytic Capacitor, Power Capacitor Style EYH, Snap-in 6mm Solder Pins: 120uF, 450V; PCB_Layout: Complies with Manufacturer's Recommendation.; DrillSize: Nominal, Complies with Manufacturer's Recommendation.; Published: 19-Mar-2004; DatasheetDocument: 14-Feb-2002; PackageReference: CAPPRS10-35X25; Publisher: Altium Limited; ComponentLink1Description: Manufacturer Link; ComponentLink1URL: http://www.vishay.com/; ComponentLink2Description: Datasheet; ComponentLink2URL: http://www.vishay.com/docs/25139/eyh.pdf; Value: 120uF
footprint CAPPRS10-35X25 (Capacitor, Electrolytic, Radial, Snap-In Pins; Body 35 x 25 mm (Dia.xH typ); Pin Spacing 10 mm (typ))
simulation model CAP (Capacitor)
signal-integrity model EYH07CU312P02
pins: 1, 2
1 alternate drawing of the same symbol

## EYH07CU315P02
designator C?
Aluminum Electrolytic Capacitor, Power Capacitor Style EYH, Snap-in 6mm Solder Pins: 150uF, 450V; PCB_Layout: Complies with Manufacturer's Recommendation.; DrillSize: Nominal, Complies with Manufacturer's Recommendation.; Published: 19-Mar-2004; DatasheetDocument: 14-Feb-2002; PackageReference: CAPPRS10-35X25; Publisher: Altium Limited; ComponentLink1Description: Manufacturer Link; ComponentLink1URL: http://www.vishay.com/; ComponentLink2Description: Datasheet; ComponentLink2URL: http://www.vishay.com/docs/25139/eyh.pdf; Value: 150uF
footprint CAPPRS10-35X25 (Capacitor, Electrolytic, Radial, Snap-In Pins; Body 35 x 25 mm (Dia.xH typ); Pin Spacing 10 mm (typ))
simulation model CAP (Capacitor)
signal-integrity model EYH07CU315P02
pins: 1, 2
1 alternate drawing of the same symbol

## EYH07CU318X02
designator C?
Aluminum Electrolytic Capacitor, Power Capacitor Style EYH, Snap-in 6mm Solder Pins: 180uF, 400V; PCB_Layout: Complies with Manufacturer's Recommendation.; DrillSize: Nominal, Complies with Manufacturer's Recommendation.; Published: 19-Mar-2004; DatasheetDocument: 14-Feb-2002; PackageReference: CAPPRS10-35X25; Publisher: Altium Limited; ComponentLink1Description: Manufacturer Link; ComponentLink1URL: http://www.vishay.com/; ComponentLink2Description: Datasheet; ComponentLink2URL: http://www.vishay.com/docs/25139/eyh.pdf; Value: 180uF
footprint CAPPRS10-35X25 (Capacitor, Electrolytic, Radial, Snap-In Pins; Body 35 x 25 mm (Dia.xH typ); Pin Spacing 10 mm (typ))
simulation model CAP (Capacitor)
signal-integrity model EYH07CU318X02
pins: 1, 2
1 alternate drawing of the same symbol

## EYH07CU322O02
designator C?
Aluminum Electrolytic Capacitor, Power Capacitor Style EYH, Snap-in 6mm Solder Pins: 220uF, 350V; PCB_Layout: Complies with Manufacturer's Recommendation.; DrillSize: Nominal, Complies with Manufacturer's Recommendation.; Published: 19-Mar-2004; DatasheetDocument: 14-Feb-2002; PackageReference: CAPPRS10-35X25; Publisher: Altium Limited; ComponentLink1Description: Manufacturer Link; ComponentLink1URL: http://www.vishay.com/; ComponentLink2Description: Datasheet; ComponentLink2URL: http://www.vishay.com/docs/25139/eyh.pdf; Value: 220uF
footprint CAPPRS10-35X25 (Capacitor, Electrolytic, Radial, Snap-In Pins; Body 35 x 25 mm (Dia.xH typ); Pin Spacing 10 mm (typ))
simulation model CAP (Capacitor)
signal-integrity model EYH07CU322O02
pins: 1, 2
1 alternate drawing of the same symbol

## EYH07CU339N02
designator C?
Aluminum Electrolytic Capacitor, Power Capacitor Style EYH, Snap-in 6mm Solder Pins: 390uF, 250V; PCB_Layout: Complies with Manufacturer's Recommendation.; DrillSize: Nominal, Complies with Manufacturer's Recommendation.; Published: 19-Mar-2004; DatasheetDocument: 14-Feb-2002; PackageReference: CAPPRS10-35X25; Publisher: Altium Limited; ComponentLink1Description: Manufacturer Link; ComponentLink1URL: http://www.vishay.com/; ComponentLink2Description: Datasheet; ComponentLink2URL: http://www.vishay.com/docs/25139/eyh.pdf; Value: 390uF
footprint CAPPRS10-35X25 (Capacitor, Electrolytic, Radial, Snap-In Pins; Body 35 x 25 mm (Dia.xH typ); Pin Spacing 10 mm (typ))
simulation model CAP (Capacitor)
signal-integrity model EYH07CU339N02
pins: 1, 2
1 alternate drawing of the same symbol

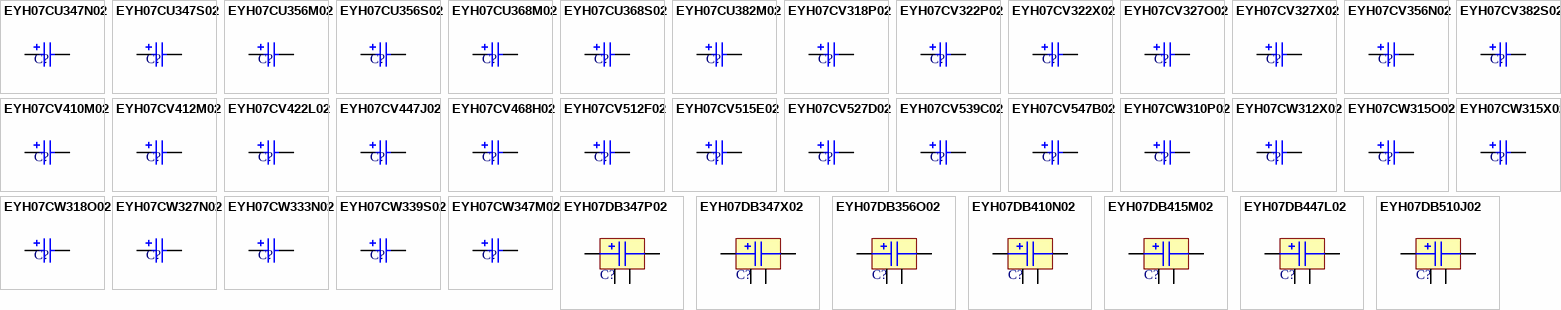
[diagram p9: symbols EYH07CU347N02 to EYH07DB510J02]